# Altium footprint library TIALogo.PcbLib: 1 footprints
Each footprint in its own frame and in the unit in brackets; x right, y up, seen from the top. Pads: shape width x height; smd on the part's side, far side on the other; paste and mask are expansions set on the pad; w line width, h text height; cw(c..) or ccw(c..) is an arc to the next point about the centre after c.
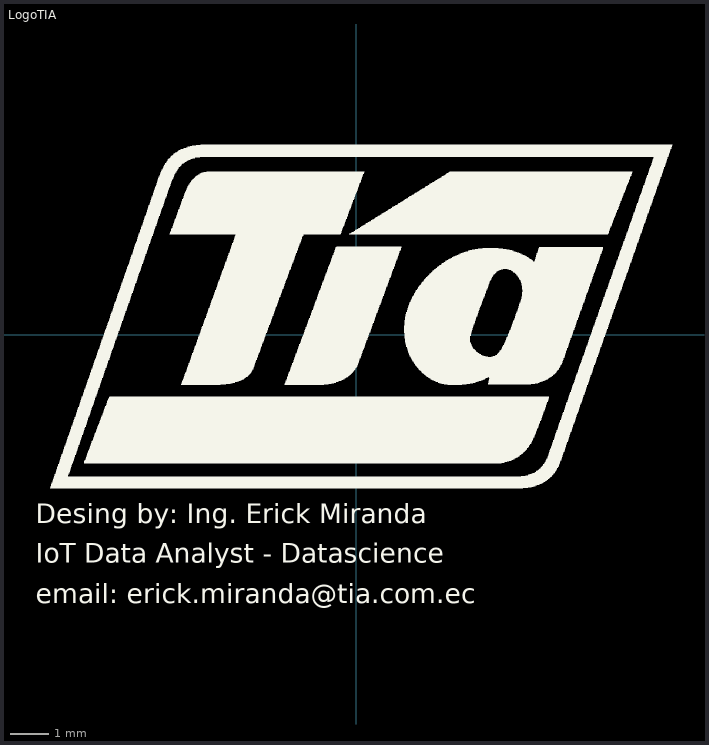
[diagram p0: the footprint, top view; thin cyan lines are the x and y axes]

## LogoTIA [mm]
Top Overlay:
  drawing of 2369 lines, arcs and shapes, not listed
  text "IoT Data Analyst - Datascience" at -8.309,-5.906 h0.5
  text "Desing by: Ing. Erick Miranda" at -8.309,-4.89 h0.5
  text "email: erick.miranda@tia.com.ec" at -8.309,-6.962 h0.5